# EAGLE library part CON-EDGE-M-06X2 (library untitled)
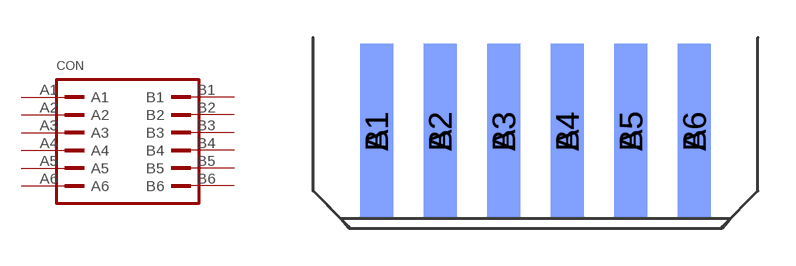
[diagram p9: symbol with the pads of PCB_EDGE_CONNECTOR_6X2; footprint PCB_EDGE_CONNECTOR_6X2]

Designator prefix CON

## CON-EDGE-M-06X2  [PCB_EDGE_CONNECTOR_6X2]
A1  A1  pas
A2  A2  pas
A3  A3  pas
A4  A4  pas
A5  A5  pas
A6  A6  pas
B1  B1  pas
B2  B2  pas
B3  B3  pas
B4  B4  pas
B5  B5  pas
B6  B6  pas

## Footprint PCB_EDGE_CONNECTOR_6X2 (pad centres in mm)
smd 1.32 x 7: A1 -6.35,2.603; A2 -3.81,2.603; A3 -1.27,2.603; A4 1.27,2.603; A5 3.81,2.603; A6 6.35,2.603
smd 1.32 x 7 bottom: B1 -6.35,2.603; B2 -3.81,2.603; B3 -1.27,2.603; B4 1.27,2.603; B5 3.81,2.603; B6 6.35,2.603